# Altium schematic symbol library SMD Specific Components.SchLib: 12 symbols
Pins are listed as number, name and electrical type; pins without a type are passive.

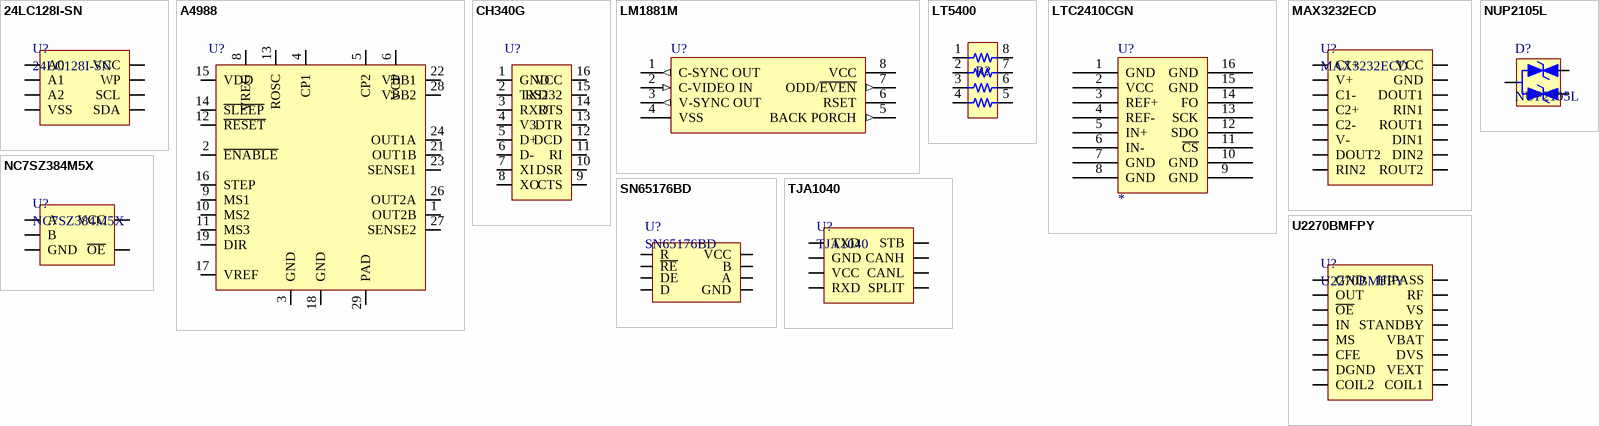
[diagram p0: symbols 24LC128I-SN to U2270BMFPY]

## 24LC128I-SN
designator U?
16kB, 128kBit, IIC Serial CMOS EEPROM, Microchip
footprint SOIC-8 (SOIC, 8-Leads, Body 5,0x4,0mm (max), Pitch 1,27mm, IPC Medium Density)
pins: 1 A0, 2 A1, 3 A2, 4 VSS, 5 SDA, 6 SCL, 7 WP, 8 VCC

## A4988
designator U?
DMOS Microstepping Driver with Translator / and Overcurrent Protection
footprint QFN-28
pins: 1 OUT2B, 2 ~{ENABLE}, 3 GND, 4 CP1, 5 CP2, 6 VCP, 8 VREG, 9 MS1, 10 MS2, 11 MS3, 12 ~{RESET}, 13 ROSC, 14 ~{SLEEP}, 15 VDD, 16 STEP, 17 VREF, 18 GND, 19 DIR, 21 OUT1B, 22 VBB1, 23 SENSE1, 24 OUT1A, 26 OUT2A, 27 SENSE2, 28 VBB2, 29 PAD

## CH340G
designator U?
USB to UART Interface
footprint SO16 (16-Pin Small Outline Integrated Circuit 1.27 mm Pitch, IPC Medium Density)
pins: 1 GND, 2 TXD, 3 RXD, 4 V3, 5 D+, 6 D-, 7 XI, 8 XO, 9 CTS, 10 DSR, 11 RI, 12 DCD, 13 DTR, 14 RTS, 15 RS232, 16 VCC

## LM1881M
designator U?
Video Sync Separator; Manufacturer: National Semiconductor; SubClass: Sync Circuit; Published: 15/04/2002; Publisher: Altium Hobart Technology Centre; Class: Video
footprint SO-G8
pins: 1 C-SYNC OUT (out), 2 C-VIDEO IN (in), 3 V-SYNC OUT (out), 4 VSS (power), 5 BACK PORCH (out), 6 RSET, 7 ODD/~{EVEN} (out), 8 VCC (power)

## LT5400
designator R?
High Precision Quad Matched Resistor Network; Value: 10k
footprint MSOP-8 (Mini Small Outline, MSOP-8 Leads; Body Width 3 mm; Pitch 0.65 mm)
footprint MSOP-8E (Mini Small Outline, MSOP-8 Leads; Body Width 3 mm; Pitch 0.65 mm)
pins: 1, 2, 3, 4, 5, 6, 7, 8 4

## LTC2410CGN
designator U?
24 Bit, No Latency, Delta-Sigma, Difrential Input & Reference ADC, Linear Technology; Text Field2: Linear Technology, Data Sheet, (.pdf); Text Field1: 24 Bit, No Latency, Delta-Sigma, Difrential Input & Reference ADC, Linear Technology; SSOP-GN16: *
footprint SSOP-G16/G3
pins: 1 GND, 2 VCC, 3 REF+, 4 REF-, 5 IN+, 6 IN-, 7 GND, 8 GND, 9 GND, 10 GND, 11 ~{CS}, 12 SDO, 13 SCK, 14 FO, 15 GND, 16 GND

## MAX3232ECD
designator U?
3V to 5.5V Multichannel RS232 Line Driver/Receiver , Texas Instruments
footprint SOIC-16 (SOIC, 16-Leads, Body 9.9x3.9mm, Pitch 1.27mm, IPC Medium Density)
pins: 1 C1+, 2 V+, 3 C1-, 4 C2+, 5 C2-, 6 V-, 7 DOUT2, 8 RIN2, 9 ROUT2, 10 DIN2, 11 DIN1, 12 ROUT1, 13 RIN1, 14 DOUT1, 15 GND, 16 VCC

## NC7SZ384M5X
designator U?
1-Bit Low Power Bus Switch, Fairchild
footprint SOT-23-5 (SOT-23/MO-178, 5-Leads, Body 3,0x3,0mm (max), Pitch 0,95mm, IPC High Density)
pins: 1 A, 2 B, 3 GND, 4 ~{OE}, 5 VCC

## NUP2105L
designator D?
Dual Line CAN  Bus Protector, OnSemi
footprint SOT-23 (SOT23, 3-Leads, Body 3,0x2,6mm (max), Pitch 0,95mm, IPC High Density)
pins: 1, 2, 3

## SN65176BD
designator U?
Differential Bus Transceivers, Texas Instruments
footprint SOIC-8 (SOIC, 8-Leads, Body 5,0x4,0mm (max), Pitch 1,27mm, IPC Medium Density)
pins: 1 R, 2 ~{RE}, 3 DE, 4 D, 5 GND, 6 A, 7 B, 8 VCC

## TJA1040
designator U?
CAN High-Speed Tranciever, NXP
footprint SO8 (SO8/SOT96-1, 8-Pin Plastic Small Outline Integrated Circuit 1.27 mm Pitch, IPC Medium Density)
pins: 1 TXD, 2 GND, 3 VCC, 4 RXD, 5 SPLIT, 6 CANL, 7 CANH, 8 STB

## U2270BMFPY
designator U?
RFID, 125kHz, Read Write Base Station, Atmel
footprint SO16 (16-Pin Small Outline Integrated Circuit 1.27 mm Pitch, IPC Medium Density)
pins: 1 GND, 2 OUT, 3 ~{OE}, 4 IN, 5 MS, 6 CFE, 7 DGND, 8 COIL2, 9 COIL1, 10 VEXT, 11 DVS, 12 VBAT, 13 STANDBY, 14 VS, 15 RF, 16 HIPASS